# Altium integrated library Transistors$.IntLib: 54 symbols
Pins are listed as number, name and electrical type; pins without a type are passive.

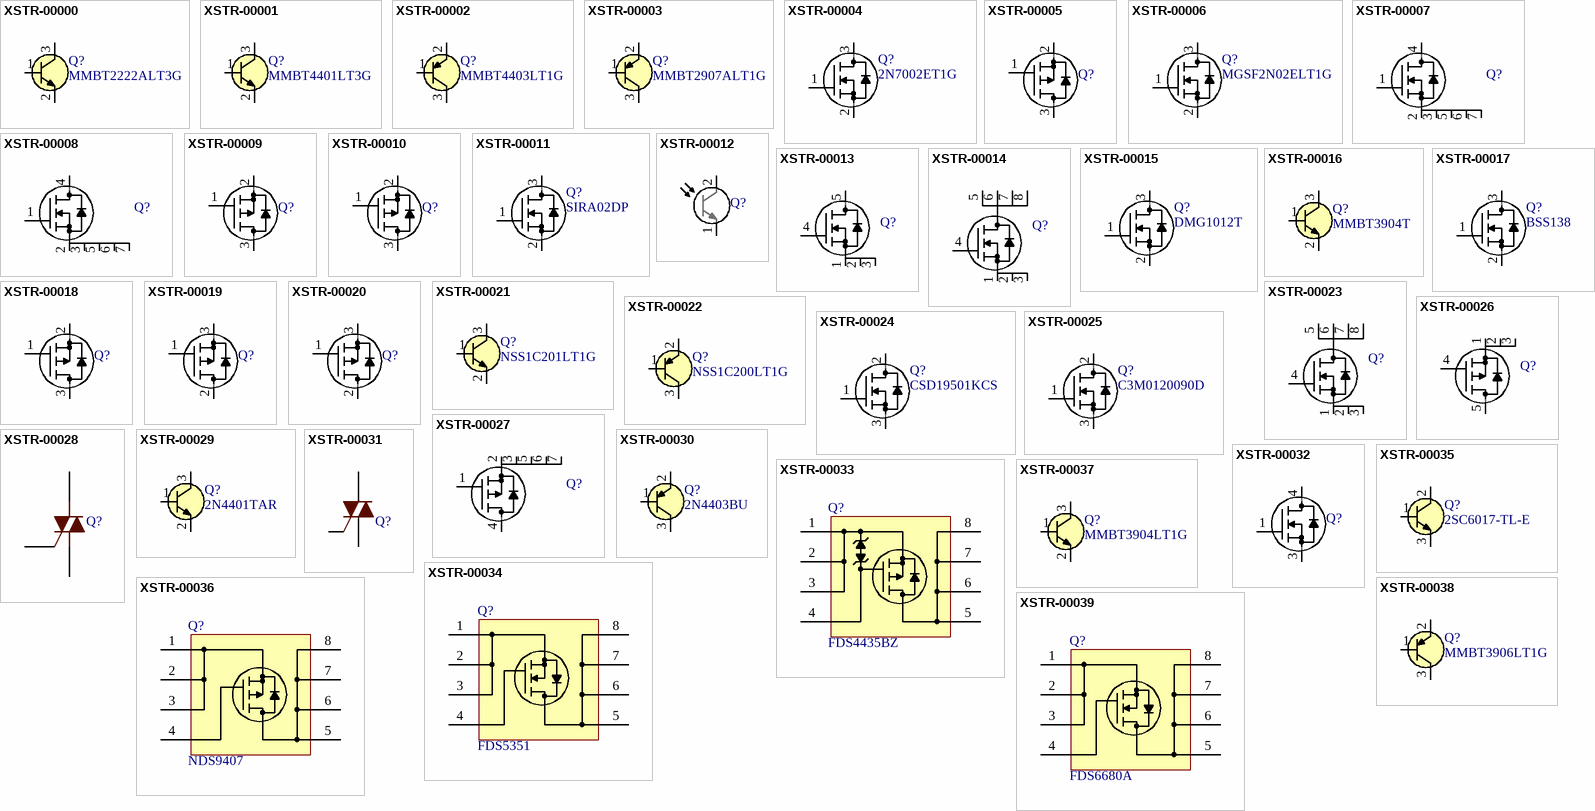
[diagram p0: symbols XSTR-00000 to XSTR-00039]

## XSTR-00000
designator Q?, comment MMBT2222ALT3G
XSTR NPN, 600mA, 40V, Vce 1V, SOT-23-3; Part Number: XSTR-00000; Manufacturer: ON Semi; Max Power: 300mW; Max Voltage: 40V; Max Current: 600mA; Type: NPN; Vgs/Vce: 1V; Manufacturer PN: MMBT2222ALT3G
footprint sot-23-3
pins: 1 B, 2 E, 3 C

## XSTR-00001
designator Q?, comment MMBT4401LT3G
XSTR NPN, 600mA, 40V, Vce 0.75V, SOT-23-3; Part Number: XSTR-00001; Manufacturer: ON Semi; Max Power: 300mW; Max Voltage: 40V; Max Current: 600mA; Type: NPN; Vgs/Vce: 0.75V; Manufacturer PN: MMBT4401LT3G
footprint sot-23-3
pins: 1 B, 2 E, 3 C

## XSTR-00002
designator Q?, comment MMBT4403LT1G
XSTR PNP, 600mA, 40V, Vce 0.75V, SOT-23-3; Part Number: XSTR-00002; Manufacturer: ON Semi; Max Power: 300mW; Max Voltage: 40V; Max Current: 600mA; Type: PNP; Vgs/Vce: 0.75V; Manufacturer PN: MMBT4403LT1G
footprint sot-23-3
pins: 1 B, 2 E, 3 C

## XSTR-00003
designator Q?, comment MMBT2907ALT1G
XSTR PNP, 600mA, 60V, Vce 1.6V, SOT-23-3; Part Number: XSTR-00003; Manufacturer: ON Semi; Max Power: 300mW; Max Voltage: 60V; Max Current: 600mA; Type: PNP; Vgs/Vce: 1.6V; Manufacturer PN: MMBT2907ALT1G
footprint sot-23-3
pins: 1 B, 2 E, 3 C

## XSTR-00004
designator Q?, comment 2N7002ET1G
XSTR NMOS, 260mA, 60V, Vgs 2.5V, SOT-23-3; Part Number: XSTR-00004; Manufacturer: ON Semi; Max Power: 300mW; Type: NFET; Max Voltage: 60V; Max Current: 260mA; Vgs/Vce: 2.5V; Manufacturer PN: 2N7002ET1G
footprint sot-23-3
pins: 1 G, 2 S, 3 D

## XSTR-00005
designator Q?, comment p-mosfet_1  (value not drawn)
XSTR PMOS, 2.2A, 30V,  Vgs 1.4V, SOT-23-3; Part Number: XSTR-00005; Manufacturer: ON Semi; Manufacturer PN: NTR4171PT1G; Max Power: 480mW; Type: PFET; Max Voltage: 30V; Max Current: 2.2A; Vgs/Vce: 1.4V
footprint sot-23-3
pins: 1 G, 2 S, 3 D

## XSTR-00006
designator Q?, comment MGSF2N02ELT1G
XSTR NMOS, 2.8A, 20V, Vgs 1V, SOT-23-3; Part Number: XSTR-00006; Manufacturer: ON Semi; Max Power: 1.25W; Type: NFET; Max Voltage: 20V; Max Current: 2.8A; Vgs/Vce: 1V; Manufacturer PN: MGSF2N02ELT1G
footprint sot-23-3
pins: 1 G, 2 S, 3 D

## XSTR-00007
designator Q?, comment n-mosfet_2  (value not drawn)
XSTR NMOS, 240A, 60V, Vgs 3.7V, D2PAK-7; Part Number: XSTR-00007; Manufacturer: Infineon; Manufacturer PN: IRFS7530TRL7PP; Max Power: 375W; Type: NFET; Max Voltage: 60V; Max Current: 240A; Vgs/Vce: 3.7V
footprint d2pak-7_0
pins: 1 G, 2 S, 3 S, 4 D, 5 S, 6 S, 7 S

## XSTR-00008
designator Q?, comment n-mosfet_2  (value not drawn)
XSTR NMOS, 523A, 40V, Vgs 3.9V, D2PAK-7; Part Number: XSTR-00008; Manufacturer: Infineon; Manufacturer PN: AUIRFSA8409-7P; Max Power: 375W; Type: NFET; Max Voltage: 40V; Max Current: 523A; Vgs/Vce: 3.9V
footprint d2pak-7_0
pins: 1 G, 2 S, 3 S, 4 D, 5 S, 6 S, 7 S

## XSTR-00009
designator Q?, comment p-mosfet_1  (value not drawn)
XSTR NMOS, 1.5A, 40V, Vgs 2.5V, SOT-23-3; Part Number: XSTR-00009; Manufacturer: NXP; Manufacturer PN: PMV250EPEAR; Max Power: 480mW; Type: PFET; Max Voltage: 40V; Max Current: 1.5A; Vgs/Vce: 2.5V
footprint sot-23-3
pins: 1 G, 2 S, 3 D

## XSTR-00010
designator Q?, comment p-mosfet_1  (value not drawn)
XSTR PMOS, 24A, 30V, Vgs 1V, DPAK; Part Number: XSTR-00010; Manufacturer: ST; Manufacturer PN: STD30PF03LT4; Max Power: 70W; Type: PFET; Max Voltage: 30V; Max Current: 24A; Vgs/Vce: 1V
footprint DPAK_0
pins: 1 G, 2 S, 3 D

## XSTR-00011
designator Q?, comment SIRA02DP
XSTR NMOS, 50A, 30V, Vgs 2.2V, PowerPak-8; Part Number: XSTR-00011; Manufacturer: Vishay; Max Power: 5W; Type: NFET; Max Voltage: 30V; Max Current: 50A; Vgs/Vce: 2.2V; Manufacturer PN: SIRA02DP
footprint PPAK-SO_8
pins: 1 G, 2 S, 3 D

## XSTR-00012
designator Q?, comment pxstr_0  (value not drawn)
Photo-XSTR, NPN, 5mA, 940nm, PT204-6B; Part Number: XSTR-00012; Manufacturer: Everlight; Type: PXSTR; Max Current: 5mA; Manufacturer PN: PT204-6B
footprint LED_0.1_0
pins: 1, 2

## XSTR-00013
designator Q?, comment n-mosfet_3  (value not drawn)
XSTR NMOS, 91A, 30V, Vgs 4.5V, LFPAK-4; Part Number: XSTR-00013; Manufacturer: NXP; Manufacturer PN: PSMN5R0-30YL; Max Power: 61W; Type: NFET; Max Voltage: 30V; Max Current: 91A; Vgs/Vce: 4.5V
footprint LFPAK-4_0
pins: 1 S, 2 S, 3 S, 4 G, 5 D

## XSTR-00014
designator Q?, comment n-mosfet_4  (value not drawn)
XSTR NMOS, 29A, 60V, Vgs 1.9V, SON-8; Part Number: XSTR-00014; Manufacturer: TI; Manufacturer PN: CSD18540Q5B; Max Power: 188W; Type: NFET; Max Voltage: 60V; Max Current: 29A; Vgs/Vce: 1.9 V
footprint SON-Q5B
pins: 1 S, 2 S, 3 S, 4 G, 5 D, 6 D, 7 D, 8 D

## XSTR-00015
designator Q?, comment DMG1012T
XSTR NMOS, 630mA, 20V, Vgs 1.0V, SOT-523; Part Number: XSTR-00015; Manufacturer: Diode Inc; Max Power: 280mW; Type: NFET; Vgs/Vce: 1 V; Max Voltage: 20V; Max Current: 630mA; Manufacturer PN: DMG1012T
footprint SOT-523
pins: 1 G, 2 S, 3 D

## XSTR-00016
designator Q?, comment MMBT3904T
XSTR NPN, 200mA, 60V, Vce 0.85V, SOT-523; Part Number: XSTR-00016; Manufacturer: Diode Inc; Max Power: 150mW; Max Voltage: 60V; Max Current: 200mA; Type: NPN; Vgs/Vce: 0.85 V; Manufacturer PN: MMBT3904T
footprint SOT-523
pins: 1 B, 2 E, 3 C

## XSTR-00017
designator Q?, comment BSS138
XSTR NMOS, 220mA, 50V, Vgs 1.3V, SOT-23-3; Part Number: XSTR-00017; Manufacturer: ON Semi; Max Power: 360mW; Type: NFET; Max Voltage: 50V; Max Current: 220mA; Vgs/Vce: 1.3V; Manufacturer PN: BSS138; Cost: 0.31
footprint sot-23-3
pins: 1 G, 2 S, 3 D

## XSTR-00018
designator Q?, comment p-mosfet_1  (value not drawn)
XSTR PMOS, 24A, 30V, Vgs 1V, DPAK; Part Number: XSTR-00018; Manufacturer: ON Semi; Manufacturer PN: NVD5117PLT4G-VF01; Max Voltage: 60V; Max Current: 61A; Max Power: 118W; Type: PFET; Vgs/Vce: 20V; Cost: 2.53
footprint DPAK_0
pins: 1 G, 2 S, 3 D

## XSTR-00019
designator Q?, comment p-mosfet_2  (value not drawn)
XSTR PFET, 23A, 100V, Vgs 20V, TO-220; Part Number: XSTR-00019; Manufacturer: Infineon; Manufacturer PN: IRF9540NPBF; Max Power: 140W; Max Voltage: 100V; Max Current: 23A; Type: PFET; Vgs/Vce: 20V; Cost: 1.36
footprint TO-220_0
pins: 1 G, 2 D, 3 S

## XSTR-00020
designator Q?, comment p-mosfet_2  (value not drawn)
XSTR PFET, 40A, 100V, Vgs 20V, TO-220; Part Number: XSTR-00020; Manufacturer: Infineon; Manufacturer PN: IRF5210PBF; Max Voltage: 100V; Max Current: 40A; Type: PFET; Vgs/Vce: 20V; Cost: 2.26
footprint TO-220_0
pins: 1 G, 2 D, 3 S

## XSTR-00021
designator Q?, comment NSS1C201LT1G
XSTR NPN, 2A, 100V, Vce 0.15V, SOT-23; Part Number: XSTR-00021; Manufacturer: ON Semi; Max Power: 490mW; Max Voltage: 100V; Max Current: 2A; Type: NPN; Vgs/Vce: 0.15V; Manufacturer PN: NSS1C201LT1G; Cost: 0.48
footprint sot-23-3
pins: 1 B, 2 E, 3 C

## XSTR-00022
designator Q?, comment NSS1C200LT1G
XSTR PNP, 2A, 100V, Vce 0.25V, SOT-23; Part Number: XSTR-00022; Manufacturer: ON Semi; Max Power: 490mW; Max Voltage: 100V; Max Current: 2A; Type: PNP; Vgs/Vce: 0.25V; Manufacturer PN: NSS1C200LT1G; Cost: 0.52
footprint sot-23-3
pins: 1 B, 2 E, 3 C

## XSTR-00023
designator Q?, comment n-mosfet_4  (value not drawn)
XSTR NMOS, 100A, 80V, Vgs 2.7V, SON-Q5B; Part Number: XSTR-00023; Manufacturer: TI; Manufacturer PN: CSD19502Q5B; Max Power: 195W; Max Voltage: 80V; Max Current: 100A; Type: NMOS; Vgs/Vce: 2.7V; Cost: 0.89
footprint SON-Q5B
pins: 1 S, 2 S, 3 S, 4 G, 5 D, 6 D, 7 D, 8 D

## XSTR-00024
designator Q?, comment CSD19501KCS
XSTR NMOS, 100A, 80V, Vgs 2.7V, TO-220AB; Part Number: XSTR-00024; Manufacturer: TI; Max Power: 217W; Max Voltage: 80V; Max Current: 100A; Type: NMOS; Vgs/Vce: 2.7V; Manufacturer PN: CSD19501KCS; Cost: 1.97
footprint TO-220_0
pins: 1 G, 2 D, 3 S

## XSTR-00025
designator Q?, comment C3M0120090D
XSTR NMOS, SiC, 23A, 900V, Vgs 2.1V, TO-247-3; Part Number: XSTR-00025; Manufacturer: Cree/Wolfspeed; Max Power: 97W; Max Voltage: 900V; Max Current: 23A; Type: NMOS; Vgs/Vce: 2.1V; Manufacturer PN: C3M0120090D; Cost: 6.75
footprint TO-247_0
pins: 1 G, 2 D, 3 S

## XSTR-00026
designator Q?, comment p-mosfet_3  (value not drawn)
XSTR PMOS, 21.1A, 30V, Vgs 3V, PQFN8 5X6; Part Number: XSTR-00026; Manufacturer: ON Semi; Manufacturer PN: FDMS6681Z; Max Power: 73W; Type: PFET; Max Voltage: 30V; Max Current: 21.1A; Vgs/Vce: 3V; Cost: 1.82
footprint PQFN-8-5x6
pins: 1 S, 2 S, 3 S, 4 G, 5 D

## XSTR-00027
designator Q?, comment p-mosfet_4  (value not drawn)
XSTR PFET, 180A, 40V, Vgs 1.7V, PG-TO263-7-3; Part Number: XSTR-00027; Manufacturer: Infineon; Manufacturer PN: IPB180P04P4L02ATMA1; Max Power: 150W; Max Voltage: 40V; Max Current: 180A; Type: PFET; Vgs/Vce: 1.7V; Cost: 2.99
footprint PG-TO263-7-3
pins: 1 G, 2 S, 3 S, 4 D, 5 S, 6 S, 7 S

## XSTR-00028
designator Q?, comment triac  (value not drawn)
TRIAC, 40A, 1200V, Vt 1.26V, TO-247; Part Number: XSTR-00028; Manufacturer: Ixys; Manufacturer PN: CLA80MT1200NHB; Max Voltage: 1200V; Max Current: 40A; Type: TRIAC; Vgs/Vce: 1.26V
footprint TO-247_0
pins: 1 M1, 2 M2, 3 G

## XSTR-00029
designator Q?, comment 2N4401TAR
XSTR NPN, 600mA, 40V, Vce 1V, TO-92; Part Number: XSTR-00029; Manufacturer: ON Semi; Max Power: 625mW; Vgs/Vce: 0.75V; Max Voltage: 40V; Max Current: 600mA; Type: NPN; Manufacturer PN: 2N4401TAR; Cost: 0.29
footprint TO-92_0
pins: 1 B, 2 E, 3 C

## XSTR-00030
designator Q?, comment 2N4403BU
XSTR PNP, 600mA, 40V, Vce 0.75V, TO-92; Part Number: XSTR-00030; Manufacturer: ON Semi; Max Power: 625mW; Max Voltage: 40V; Max Current: 600mA; Type: PNP; Vgs/Vce: 0.75V; Manufacturer PN: 2N4403BU; Cost: 0.25
footprint TO-92_0
pins: 1 B, 2 E, 3 C

## XSTR-00031
designator Q?, comment triac_1  (value not drawn)
TRIAC, 25A, 800V, Vt 1.55V, D2PAK; Part Number: XSTR-00031; Manufacturer: ST; Manufacturer PN: T2535-800G-TR; Max Power: 10W; Max Voltage: 800V; Max Current: 25A; Type: TRIAC; Vgs/Vce: 1.55V; Cost: 2.84
footprint D2PAK-3_1
pins: 1 M1, 3 G, 4 M2

## XSTR-00032
designator Q?, comment n-mosfet_GxSD  (value not drawn)
XSTR NMOS, 90A, 200V, 375W, D2PAK; Part Number: XSTR-00032; Manufacturer: Vishay Siliconix; Manufacturer PN: SUM90140E-GE3; Vgs/Vce: 2.0V; Max Voltage: 200V; Max Current: 90A; Max Power: 375W; Type: NMOS; Cost: 3; F13: https://www.digikey.com/en/products/detail/vishay-siliconix/SUM90140E-GE3/6708888?s=N4IgTCBcDaIMoFUCyBOADARgCxoKIFoBxXAZhAF0BfIA
footprint D2PAK-3_1
pins: 1 G, 3 S, 4 D

## XSTR-00033
designator Q?, comment FDS4435BZ
XSTR PFET, 8.8A, 30V, 2.5W, SOIC-8; Part Number: XSTR-00033; Manufacturer: ON Semi; Vgs/Vce: 2.1V; Max Voltage: 30V; Max Current: 8.8A; Max Power: 2.5W; Type: PFET; Manufacturer PN: FDS4435BZ
footprint SO-8
pins: 1 S, 2 S, 3 S, 4 G, 5 D, 6 D, 7 D, 8 D

## XSTR-00034
designator Q?, comment FDS5351
XSTR NFET, 6.1A, 60V, 5W, SOIC-8; Part Number: XSTR-00034; Manufacturer: ON Semi; Vgs/Vce: 2.0V; Max Voltage: 60V; Max Current: 6.1A; Max Power: 5W; Type: NFET; Manufacturer PN: FDS5351; Cost: 0.8
footprint SO-8
pins: 1 S, 2 S, 3 S, 4 G, 5 D, 6 D, 7 D, 8 D

## XSTR-00035
designator Q?, comment 2SC6017-TL-E
XSTR NPN, 10A, 50V, Vce 0.18V, DPAK; Part Number: XSTR-00035; Manufacturer: ON Semi; Max Power: 950mW; Max Voltage: 50V; Max Current: 10A; Type: NPN; Vgs/Vce: 0.18V; Manufacturer PN: 2SC6017-TL-E; Cost: 0.73; F13: https://www.digikey.com/en/products/detail/on-semiconductor/2SC6017-TL-E/2797038
footprint DPAK_0
pins: 1 B, 2 C, 3 E

## XSTR-00036
designator Q?, comment NDS9407
XSTR PFET, 3A, 60V, 2.5W, SOIC-8; Part Number: XSTR-00036; Manufacturer: ON Semi; Vgs/Vce: 1.6V; Max Voltage: 60V; Max Current: 3A; Max Power: 2.5W; Type: PFET; Manufacturer PN: NDS9407; Cost: 0.78
footprint SO-8
pins: 1 S, 2 S, 3 S, 4 G, 5 D, 6 D, 7 D, 8 D

## XSTR-00037
designator Q?, comment MMBT3904LT1G
XSTR, NPN, 200mA, 40V, Vce 0.3V, SOT-23-3; Part Number: XSTR-00037; Manufacturer: ON Semi; Max Power: 300mW; Max Voltage: 40V; Max Current: 200mA; Type: NPN; Vgs/Vce: 0.3V; Manufacturer PN: MMBT3904LT1G; Cost: 0.12
footprint SOT-23-3_1
pins: 1 B, 2 E, 3 C

## XSTR-00038
designator Q?, comment MMBT3906LT1G
XSTR, PNP, 200mA, 40V, Vce 0.4V, SOT-23-3; Part Number: XSTR-00038; Manufacturer: ON Semi; Max Power: 300mW; Max Voltage: 40V; Max Current: 200mA; Type: PNP; Vgs/Vce: 0.4V; Manufacturer PN: MMBT3906LT1G; Cost: 0.12
footprint SOT-23-3_1
pins: 1 B, 2 E, 3 C

## XSTR-00039
designator Q?, comment FDS6680A
XSTR, NFET, 12.5A, 30V, 9.5mOhm, 2.5W, SOIC-8; Part Number: XSTR-00039; Manufacturer: ON Semi; Vgs/Vce: 4.5V; Max Voltage: 30V; Max Current: 12.5A; Max Power: 2.5W; Type: NFET; Manufacturer PN: FDS6680A; Cost: 0.68
footprint SO-8
pins: 1 S, 2 S, 3 S, 4 G, 5 D, 6 D, 7 D, 8 D

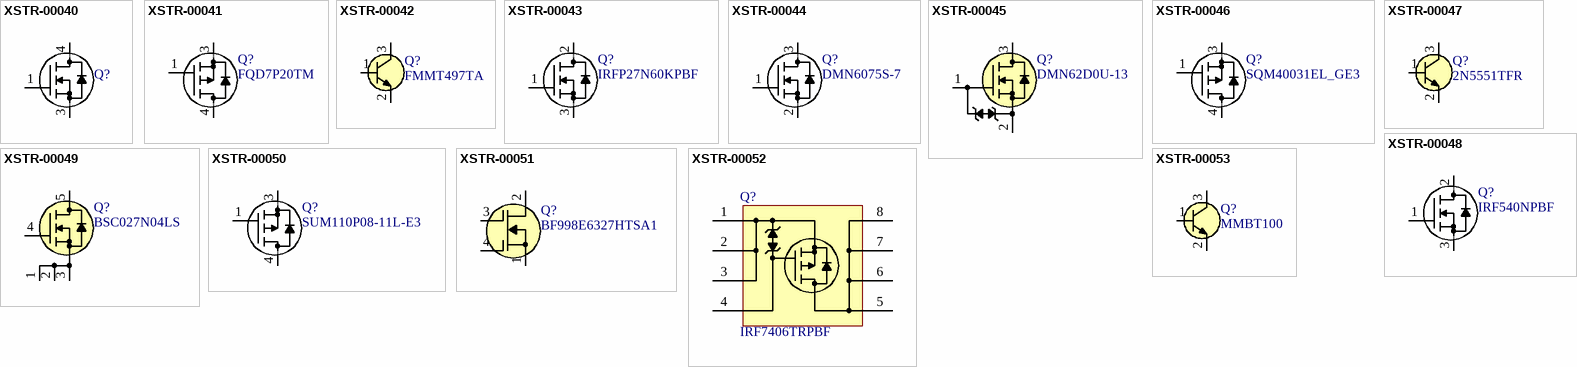
[diagram p1: symbols XSTR-00040 to XSTR-00053]

## XSTR-00040
designator Q?, comment n-mosfet_GxSD  (value not drawn)
XSTR NMOS, 131A, 100V, 375W, D2PAK; Part Number: XSTR-00040; Manufacturer: Vishay Siliconix; Manufacturer PN: SUM70060E-GE3; Vgs/Vce: 4.0V; Max Voltage: 100V; Max Current: 131A; Max Power: 375W; Type: NMOS; Cost: 1.98
footprint D2PAK-3_1
pins: 1 G, 3 S, 4 D

## XSTR-00041
designator Q?, comment FQD7P20TM
XSTR, PMOS, 5.7A, 200V, 55W, D-Pak; Part Number: XSTR-00041; Manufacturer: ON Semi; Vgs/Vce: 30V; Max Voltage: 200V; Max Current: 5.7A; Max Power: 55W; Type: PMOS; Manufacturer PN: FQD7P20TM; Cost: 0.87
footprint DPAK_0
pins: 1 G, 3 S, 4 D

## XSTR-00042
designator Q?, comment FMMT497TA
XSTR, NPN, 500mA, 300V, 0.5W, SOT-23; Part Number: XSTR-00042; Manufacturer: Diodes Inc; Vgs/Vce: 0.3V; Max Voltage: 300V; Max Current: 500mA; Max Power: 0.5W; Type: NPN; Manufacturer PN: FMMT497TA; Cost: 0.44
footprint SOT-23-3_1
pins: 1 B, 2 E, 3 C

## XSTR-00043
designator Q?, comment IRFP27N60KPBF
XSTR, NMOS, 27A, 600V, 500W, TO-247; Part Number: XSTR-00043; Manufacturer: Vishay Siliconix; Vgs/Vce: 5V; Max Voltage: 600V; Max Current: 27A; Max Power: 500W; Type: NMOS; Manufacturer PN: IRFP27N60KPBF; Cost: 7.91
footprint TO-247_0
pins: 1 G, 2 D, 3 S

## XSTR-00044
designator Q?, comment DMN6075S-7
XSTR, MOSFET N-Channel, 60V 2A SOT-23-3; Part Number: XSTR-00044; Manufacturer: Diodes Inc; Max Power: 800mW; Type: NMOS; Vgs/Vce: 3V; Max Voltage: 60V; Max Current: 2A; Manufacturer PN: DMN6075S-7; Cost: 0.33
footprint SOT-23-3_1
pins: 1 G, 2 S, 3 D

## XSTR-00045
designator Q?, comment DMN62D0U-13
XSTR, MOSFET N-Channel, 60V 380mA, ESD Protected Gate, SOT-23-3; Part Number: XSTR-00045; Manufacturer: Diodes Inc; Max Power: 380mW; Type: NMOS; Vgs/Vce: 1V; Max Voltage: 60V; Max Current: 380mA; Manufacturer PN: DMN62D0U-13; Cost: 0.32
footprint SOT-23-3_1
pins: 1 G, 2 S, 3 D

## XSTR-00046
designator Q?, comment SQM40031EL_GE3
XSTR, MOSFET P-Channel, 40V 120A 3mOhm Rds On, D2PAK; Part Number: XSTR-00046; Manufacturer: Vishay Siliconix; Max Power: 375W; Type: PMOS; Vgs/Vce: 2.5V; Max Voltage: 40V; Max Current: 120A; Manufacturer PN: SQM40031EL_GE3; Cost: 2.81
footprint D2PAK-3_1
pins: 1 G, 3 S, 4 D

## XSTR-00047
designator Q?, comment 2N5551TFR
XSTR, NPN, 600mA, 160V, Vce 0.2V, TO-92; Part Number: XSTR-00047; Manufacturer: ON Semi; Max Power: 625mW; Max Voltage: 160V; Max Current: 600mA; Type: NPN; Vgs/Vce: 0.2V; Manufacturer PN: 2N5551TFR; Cost: 0.3
footprint TO-92_0
pins: 1 B, 2 E, 3 C

## XSTR-00048
designator Q?, comment IRF540NPBF
XSTR, MOSFET N-Channel, 100V 33A TO-220AB; Part Number: XSTR-00048; Manufacturer: Infineon; Max Power: 130W; Type: NMOS; Vgs/Vce: 4V; Max Voltage: 100V; Max Current: 33A; Manufacturer PN: IRF540NPBF; Cost: 0.95
footprint TO-220_0
pins: 1 G, 2 D, 3 S

## XSTR-00049
designator Q?, comment BSC027N04LS
XSTR, MOSFET N-Channel, 40V 100A TDFN-8; Part Number: XSTR-00049; Manufacturer: Infineon; Max Power: 83W; Type: NMOS; Vgs/Vce: 2V; Max Voltage: 40V; Max Current: 100A; Manufacturer PN: BSC027N04LS; Cost: 1.19
footprint TDFN-8-5x6
pins: 1 S, 2 S, 3 S, 4 G, 5 D

## XSTR-00050
designator Q?, comment SUM110P08-11L-E3
XSTR, MOSFET P-Channel, 80V 110A, D2PAK; Part Number: XSTR-00050; Manufacturer: Vishay Siliconix; Max Power: 375W; Type: PMOS; Vgs/Vce: 3V; Max Voltage: 80V; Max Current: 110A; Manufacturer PN: SUM110P08-11L-E3; Cost: 4.43
footprint D2PAK-3_1
pins: 1 G, 3 S, 4 D

## XSTR-00051
designator Q?, comment BF998E6327HTSA1
XSTR, RF MOSFET N-Channel 12V 30mA; Part Number: XSTR-00051; Manufacturer: Infineon; Type: NMOS; Vgs/Vce: 0.8V; Max Voltage: 12V; Max Current: 30mA; Manufacturer PN: BF998E6327HTSA1; Cost: 0.43; F13: https://www.digikey.com/en/products/detail/infineon-technologies/BF998E6327HTSA1/506206
footprint SOT-143-4
pins: 1 S, 2 D, 3 G2, 4 G1

## XSTR-00052
designator Q?, comment IRF7406TRPBF
XSTR, MOSFET P-Channel 30V 5.8A SOIC-8; Part Number: XSTR-00052; Manufacturer: Infineon; Max Power: 2.5W; Type: PMOS; Vgs/Vce: 1V; Max Voltage: 30V; Max Current: 5.8A; Manufacturer PN: IRF7406TRPBF; Cost: 1.14; F13: https://www.digikey.com/en/products/detail/infineon-technologies/IRF7406TRPBF/827919
footprint SO-8
pins: 1 S, 2 S, 3 S, 4 G, 5 D, 6 D, 7 D, 8 D

## XSTR-00053
designator Q?, comment MMBT100
XSTR, NPN, 500mA, 45V, Vce 0.4V, SOT-23-3; Part Number: XSTR-00053; Manufacturer: onsemi; Max Current: 0.5A; Max Power: 350mW; Max Voltage: 45V; Type: NPN; Vgs/Vce: 0.4V; Manufacturer PN: MMBT100; Cost: 0.38; F13: https://www.digikey.com/en/products/detail/onsemi/MMBT100/3504512
footprint SOT-23-3_1
pins: 1 B, 2 E, 3 C